# EAGLE library part LTC4412-TSOT23-6 (library Neel)
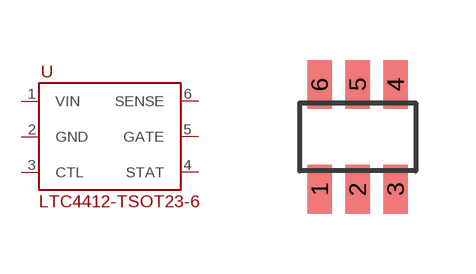
[diagram p25: symbol with the pads of TSOT-23-6; footprint TSOT-23-6]

Designator prefix -

## LTC4412-TSOT23-6  [TSOT-23-6]
1  VIN
2  GND
3  CTL
4  STAT
5  GATE
6  SENSE

## Footprint TSOT-23-6 (pad centres in mm)
smd 0.62 x 1.22: 1 -0.95,-1.31; 2 0,-1.31; 3 0.95,-1.31; 4 0.95,1.31; 5 0,1.31; 6 -0.95,1.31